# EAGLE library part TCMD4000 (library custom)
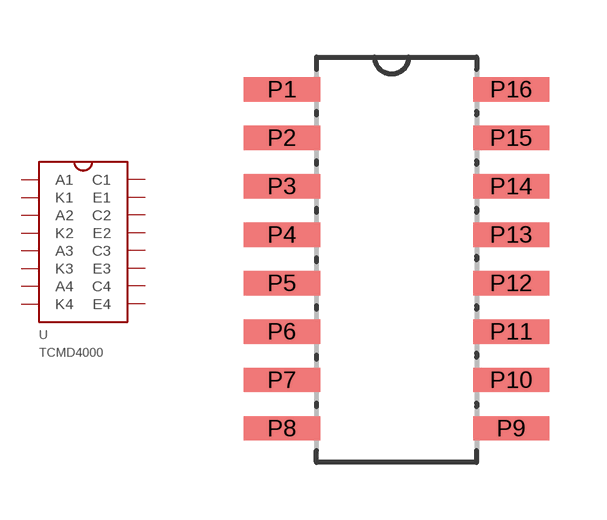
[diagram p4: symbol with the pads of SOIC16; footprint SOIC16]

Designator prefix -

## TCMD4000  [SOIC16]
P1  A1
P2  K1
P3  A2
P4  K2
P5  A3
P6  K3
P7  A4
P8  K4
P9  E4
P10  C4
P11  E3
P12  C3
P13  E2
P14  C2
P15  E1
P16  C1

## Footprint SOIC16 (pad centres in mm)
smd 2 x 0.635: P1 -2.85,4.57; P2 -2.85,3.3; P3 -2.85,2.03; P4 -2.85,0.76; P5 -2.85,-0.51; P6 -2.85,-1.78; P7 -2.85,-3.05; P8 -2.85,-4.32; P9 3.157,-4.32; P10 3.157,-3.05; P11 3.157,-1.78; P12 3.157,-0.51; P13 3.157,0.76; P14 3.157,2.03; P15 3.157,3.3; P16 3.16,4.57